# Altium footprint library LAIRD_28L0138-50R-10.PcbLib: 1 footprints
Each footprint in its own frame and in the unit in brackets; x right, y up, seen from the top. Pads: shape width x height; smd on the part's side, far side on the other; paste and mask are expansions set on the pad; w line width, h text height; cw(c..) or ccw(c..) is an arc to the next point about the centre after c.
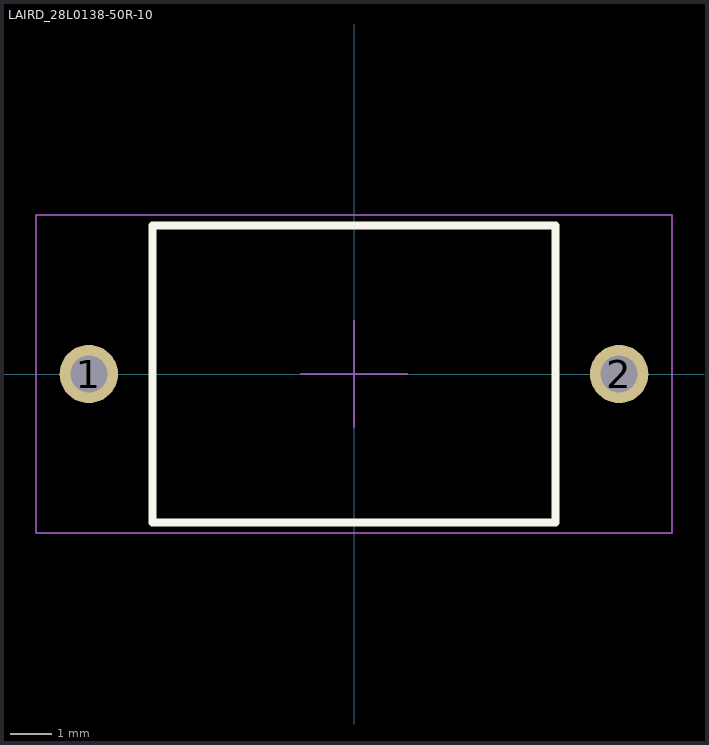
[diagram p0: the footprint, top view; thin cyan lines are the x and y axes]

## LAIRD_28L0138-50R-10 [mil]
pads (2):
  round 55 hole 35: 1(-250,0) 2(250,0)
Top Overlay:
  lines w7.87: -190,-140 190,-140 190,140 -190,140 -190,-140
Mechanical 15:
  lines w1.97: -50,0 50,0 ; 0,-50 0,50 ; -300,-150 300,-150 300,150 -300,150 -300,-150
3D body: height 274.91, standoff 0, extent -187.5,-137.46 187.5,138